# Altium integrated library FTSH-107-01-L-DV-K-A.IntLib: 1 symbol
Pins are listed as number, name and electrical type; pins without a type are passive.

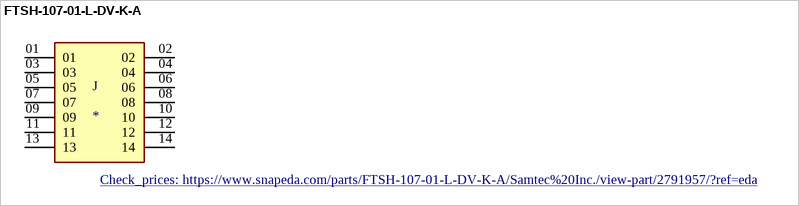
[diagram p0: symbol FTSH-107-01-L-DV-K-A]

## FTSH-107-01-L-DV-K-A
designator J
Connector Header Surface Mount 14 position 0.050 (1.27mm); MF: Samtec Inc.; MP: FTSH-107-01-L-DV-K-A; Package: None; Value: *; Price: None; SnapEDA_Link: https://www.snapeda.com/parts/FTSH-107-01-L-DV-K-A/Samtec%20Inc./view-part/2791957/?ref=snap; Availability: Bad; Check_prices: https://www.snapeda.com/parts/FTSH-107-01-L-DV-K-A/Samtec%20Inc./view-part/2791957/?ref=eda
footprint SAMTEC_FTSH-107-01-L-DV-K-A
pins: 01, 02, 03, 04, 05, 06, 07, 08, 09, 10, 11, 12, 13, 14